# Altium footprint library LPEDT_Parts.PcbLib: 8 footprints
Each footprint in its own frame and in the unit in brackets; x right, y up, seen from the top. Pads: shape width x height; smd on the part's side, far side on the other; paste and mask are expansions set on the pad; w line width, h text height; cw(c..) or ccw(c..) is an arc to the next point about the centre after c.
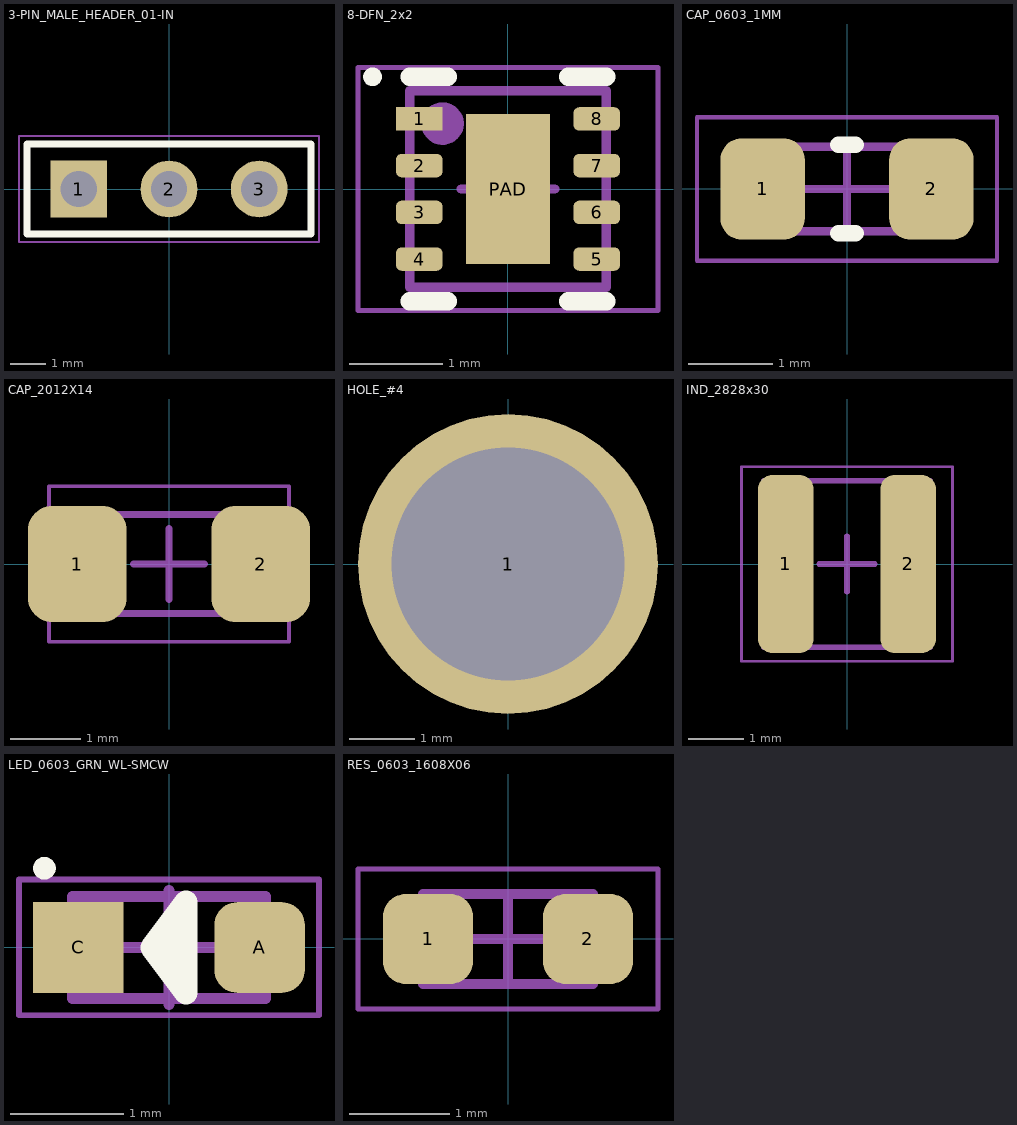
[diagram p0: the footprints below, top view; thin cyan lines are the x and y axes]

## 3-PIN_MALE_HEADER_01-IN [mm] ".025 SQ Post Terminal Strip Assembly, 1x3 Pins, Vertical, 2.54mm Pitch, Male"
height 8.58
pads (3):
  rect 1.6x1.6 hole 1.02: 1(-2.54,0)
  round 1.6 hole 1.02: 2(0,0) 3(2.54,0)
Top Overlay:
  lines w0.2: -4,-1.27 4,-1.27 4,1.27 -4,1.27 -4,-1.27
Mechanical 13:
  lines w0.1: -4,-1.27 4,-1.27 4,1.27 -4,1.27 -4,-1.27
  text ".Designator" at -1.524,-0.635 h1.3
Mechanical 15:
  lines w0.05: -4.225,-1.495 4.225,-1.495 4.225,1.495 -4.225,1.495 -4.225,-1.495
  lines w0.1: -0.5,0 0.5,0 ; 0,-0.5 0,0.5
3D body "User Library-Header_Male_3Pin.STEP": height 8.54, standoff -3, extent -3.81,-1.27 3.81,1.22

## 8-DFN_2x2 [mm] "DFN, 8-Leads, Body 2.00x2.00mm, Pitch 0.50mm, Thermal Pad 1.60x0.69mm, IPC Medium Density"
height 0.8
pads (9):
  rect 0.5x0.25 smd mask+0.07: 1(-0.95,0.75)
  rrect50% 0.5x0.25 smd mask+0.07: 2(-0.95,0.25) 3(-0.95,-0.25) 4(-0.95,-0.75) 5(0.95,-0.75) 6(0.95,-0.25) 7(0.95,0.25) 8(0.95,0.75)
  rect 0.9x1.6 smd paste-1 mask+0.07: PAD(0,0)
Top Overlay:
  circle w0.1: c-1.45,1.2 r0.05
  lines w0.2: -1.05,-1.2 -0.645,-1.2 ; -1.05,1.2 -0.645,1.2 ; 0.645,-1.2 1.05,-1.2 ; 0.645,1.2 1.05,1.2
Top Paste:
  rectangle: -0.45,0.1 0.45,0.8
  region: 0.45,-0.1 -0.45,-0.1 -0.45,-0.8 0.45,-0.8
Mechanical 13:
  circle w0.254: c-0.7,0.7 r0.1
  lines w0.1: -1.05,-1.05 1.05,-1.05 1.05,1.05 -1.05,1.05 -1.05,-1.05
  text ".Designator" at -0.88,-0.463 h0.65
Mechanical 15:
  lines w0.05: -1.605,-1.3 1.605,-1.3 1.605,1.3 -1.605,1.3 -1.605,-1.3
  lines w0.1: -0.5,0 0.5,0 ; 0,-0.5 0,0.5
3D body: height 0.8, standoff 0, extent -1.05,-1.05 1.05,1.05

## CAP_0603_1MM [mm] "Chip Capacitor, 2-Leads, Body 1.60x0.80mm, IPC Medium Density"
height 1
pads (2):
  rrect50% 1x1.2 smd: 1(-1,0) 2(1,0)
Top Overlay:
  lines w0.2: -0.1,-0.525 0.1,-0.525 ; -0.1,0.525 0.1,0.525
Mechanical 13:
  lines w0.1: -0.9,-0.5 -0.9,0.5 0.9,0.5 0.9,-0.5 -0.9,-0.5
  text ".Designator" at -0.723,-0.254 h0.5
Mechanical 15:
  lines w0.05: -1.778,-0.85 -1.778,0.85 1.778,0.85 1.778,-0.85 -1.778,-0.85
  lines w0.1: -0.5,0 0.5,0 ; 0,-0.5 0,0.5
3D body "CAP_0603_1608X10.step": height 1, standoff 0, extent -0.9,-0.5 0.9,0.5

## CAP_2012X14 [mm] "Chip Capacitor, 2-Leads, Body 2.00x1.25mm, IPC Medium Density"
height 1.4
pads (2):
  rrect50% 1.4x1.65 smd: 1(-1.3,0) 2(1.3,0)
Mechanical 13:
  lines w0.1: -1.075,-0.7 -1.075,0.7 1.075,0.7 1.075,-0.7 -1.075,-0.7
Mechanical 15:
  lines w0.05: -1.7,-1.1 -1.7,1.1 1.7,1.1 1.7,-1.1 -1.7,-1.1
  lines w0.1: -0.5,0 0.5,0 ; 0,-0.5 0,0.5
3D body: height 1.4, standoff 0, extent -0.625,-0.7 0.625,0.7
3D body: height 1.4, standoff 0, extent -1.075,-0.7 -0.625,0.7
3D body: height 1.4, standoff 0, extent 0.625,-0.7 1.075,0.7

## HOLE_#4 [mil]
pads (1):
  round 180 hole 140: 1(0,0)

## IND_2828x30 [mm] "Precision Wire Wound Inductor, 2-Leads, Body 2.80x2.80mm, IPC Medium Density"
height 3
pads (2):
  rrect50% 1x3.2 smd: 1(-1.1,0) 2(1.1,0)
Mechanical 13:
  lines w0.1: -1.5,-1.5 -1.5,1.5 1.5,1.5 1.5,-1.5 -1.5,-1.5
  text ".Designator" at -1.195,-0.845 h0.9
Mechanical 15:
  lines w0.05: -1.9,-1.75 -1.9,1.75 1.9,1.75 1.9,-1.75 -1.9,-1.75
  lines w0.1: -0.5,0 0.5,0 ; 0,-0.5 0,0.5
3D body "744025001_Download_STP_WE-TPC-2828_rev1.stp": height 2.8, standoff 0, extent -1.4,-1.4 1.4,1.4

## LED_0603_GRN_WL-SMCW [mm] "SODFL, 2-Leads, Body 0.80x1.80mm, IPC Medium Density"
height 0.8
pads (2):
  rrect50% 0.8x0.8 smd: A(0.8,0)
  rect 0.8x0.8 smd: C(-0.8,0)
Top Overlay:
  circle w0.1: c-1.1,0.7 r0.05
  lines w0.2: -0.15,0 0.05,0
  lines w0.205: -0.15,0 0.15,0.4 0.15,-0.4 -0.15,0
Mechanical 13:
  lines w0.1: -0.85,-0.45 0.85,-0.45 0.85,0.45 -0.85,0.45 -0.85,-0.45
  text ".Designator" at -0.723,-0.254 h0.5
Mechanical 15:
  lines w0.05: -1.325,-0.6 1.325,-0.6 1.325,0.6 -1.325,0.6 -1.325,-0.6
  lines w0.1: -0.5,0 0.5,0 ; 0,-0.5 0,0.5
3D body "LED_0603_WURTH_WL-SMCW_base.step": height 0.65, standoff 0.01, extent -0.8,-0.4 0.8,0.4
3D body "LED_0603_WURTH_WL-SMCW_lens.step": height 0.71, standoff 0.31, extent -0.55,-0.4 0.55,0.4

## RES_0603_1608X06 [mm] "Chip Resistor, 2-Leads, Body 1.60x0.80mm, IPC Medium Density"
height 0.55
pads (2):
  rrect50% 0.9x0.9 smd: 1(-0.8,0) 2(0.8,0)
Mechanical 13:
  lines w0.1: -0.85,-0.45 -0.85,0.45 0.85,0.45 0.85,-0.45 -0.85,-0.45
  text ".Designator" at -0.635,-0.254 h0.4
Mechanical 15:
  lines w0.05: -1.5,-0.7 -1.5,0.7 1.5,0.7 1.5,-0.7 -1.5,-0.7
  lines w0.1: -0.45,0 0.45,0 ; 0,-0.45 0,0.45
3D body "0603_1608X05N.step": height 0.45, standoff 0, extent -0.775,-0.425 0.775,0.425